# Altium schematic symbol library SCH - DIODES - DIODE TVS UNI AC.Schlib: 1 symbol
Pins are listed as number, name and electrical type; pins without a type are passive.

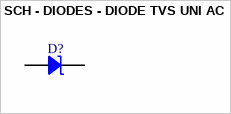
[diagram p0: symbol SCH - DIODES - DIODE TVS UNI AC]

## SCH - DIODES - DIODE TVS UNI AC
designator D?
footprint ONSC-SOD-323-2-477-02_G_V (SOD, 2-Leads, Body 1.7x1.25mm)
pins: 1 A, 2 C